# Altium footprint library jst.PcbLib: 39 footprints (part 3 of 3)
Each footprint in its own frame and in the unit in brackets; x right, y up, seen from the top. Pads: shape width x height; smd on the part's side, far side on the other; paste and mask are expansions set on the pad; w line width, h text height; cw(c..) or ccw(c..) is an arc to the next point about the centre after c.
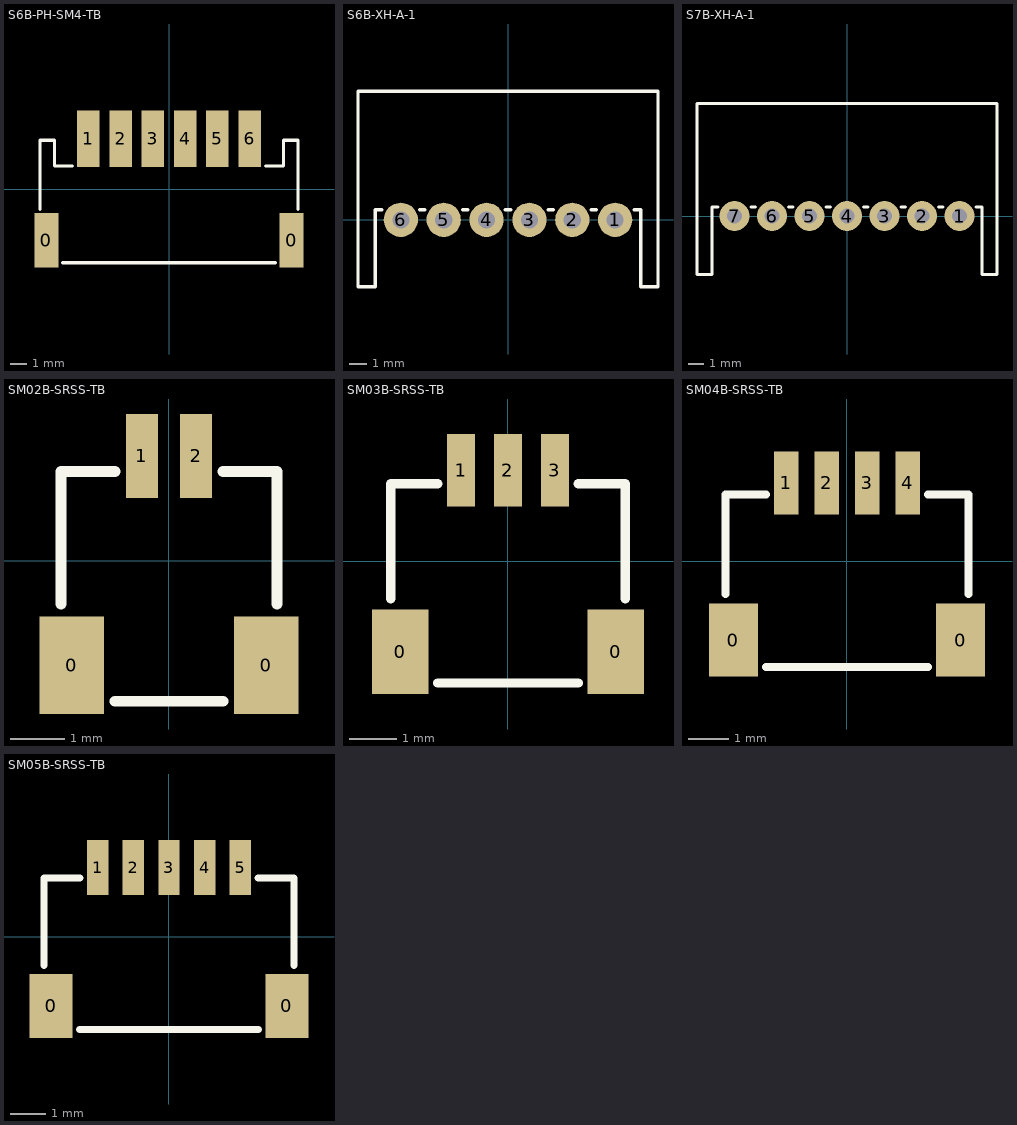
[diagram p2: the footprints below, top view; thin cyan lines are the x and y axes]

## S6B-PH-SM4-TB [mm]
pads (8):
  rect 1.5x3.4 smd: 0(-7.6,-3.15) 0(7.6,-3.15)
  rect 1.4x3.5 smd: 1(-5,3.15) 2(-3,3.15) 3(-1,3.15) 4(1,3.15) 5(3,3.15) 6(5,3.15)
Top Overlay:
  lines w0.2: -8,-1.25 -8,3.05 -7.1,3.05 -7.1,1.45 -6,1.45 ; -6.6,-4.55 6.6,-4.55 ; 6,1.45 7.1,1.45 7.1,3.05 8,3.05 8,-1.25
3D body "S6B-PH-SM4-TB.STEP": height 5.6, standoff 0, extent -7.95,-4.55 7.95,4.05

## S6B-XH-A-1 [mm]
pads (6):
  round 2 hole 1: 1(6.25,0) 2(3.75,0) 3(1.25,0) 4(-1.25,0) 5(-3.75,0) 6(-6.25,0)
Top Overlay:
  lines w0.2: -7.35,0.6 -7.75,0.6 -7.75,-3.9 -8.75,-3.9 -8.75,7.5 8.75,7.5 8.75,-3.9 7.75,-3.9 7.75,0.6 7.35,0.6 ; -5.15,0.6 -4.85,0.6 ; -2.65,0.6 -2.35,0.6 ; -0.15,0.6 0.15,0.6 ; 2.35,0.6 2.65,0.6 ; 4.85,0.6 5.15,0.6
3D body "S6B-XH-A-1.STEP": height 6.15, standoff -3.4, extent -8.7,-3.95 8.7,7.55

## S7B-XH-A-1 [mm]
pads (7):
  round 2 hole 1: 1(7.5,0) 2(5,0) 3(2.5,0) 4(0,0) 5(-2.5,0) 6(-5,0) 7(-7.5,0)
Top Overlay:
  lines w0.2: -8.6,0.6 -9,0.6 -9,-3.9 -10,-3.9 -10,7.5 10,7.5 10,-3.9 9,-3.9 9,0.6 8.6,0.6 ; -6.4,0.6 -6.1,0.6 ; -3.9,0.6 -3.6,0.6 ; -1.4,0.6 -1.1,0.6 ; 1.1,0.6 1.4,0.6 ; 3.6,0.6 3.9,0.6 ; 6.1,0.6 6.4,0.6
3D body "S7B-XH-A-1.STEP": height 6.15, standoff -3.4, extent -10,-3.95 9.9,7.55

## SM02B-SRSS-TB [mm]
pads (4):
  rect 1.2x1.8 smd: 0(-1.8,-1.937) 0(1.8,-1.937)
  rect 0.6x1.55 smd: 1(-0.5,1.938) 2(0.5,1.938)
Top Overlay:
  lines w0.2: -2,-0.8 -2,1.65 -1,1.65 ; -1,-2.6 1,-2.6 ; 1,1.65 2,1.65 2,-0.8
3D body "SM02B-SRSS-TB.STEP": height 2.91, standoff -0.05, extent -2,-2.6 2,2.35

## SM03B-SRSS-TB [mm]
pads (5):
  rect 1.2x1.8 smd: 0(-2.3,-1.937) 0(2.3,-1.937)
  rect 0.6x1.55 smd: 1(-1,1.937) 2(0,1.937) 3(1,1.937)
Top Overlay:
  lines w0.2: -2.5,-0.8 -2.5,1.65 -1.5,1.65 ; -1.5,-2.6 1.5,-2.6 ; 1.5,1.65 2.5,1.65 2.5,-0.8
3D body "SM03B-SRSS-TB.STEP": height 2.91, standoff -0.05, extent -2.5,-2.595 2.5,2.355

## SM04B-SRSS-TB [mm]
pads (6):
  rect 1.2x1.8 smd: 0(-2.8,-1.937) 0(2.8,-1.937)
  rect 0.6x1.55 smd: 1(-1.5,1.937) 2(-0.5,1.937) 3(0.5,1.937) 4(1.5,1.937)
Top Overlay:
  lines w0.2: -3,-0.8 -3,1.65 -2,1.65 ; -2,-2.6 2,-2.6 ; 2,1.65 3,1.65 3,-0.8
3D body "SM04B-SRSS-TB.STEP": height 2.91, standoff -0.05, extent -3,-2.595 3,2.355

## SM05B-SRSS-TB [mm]
pads (7):
  rect 1.2x1.8 smd: 0(-3.3,-1.937) 0(3.3,-1.937)
  rect 0.6x1.55 smd: 1(-2,1.937) 2(-1,1.937) 3(0,1.937) 4(1,1.937) 5(2,1.937)
Top Overlay:
  lines w0.2: -3.5,-0.8 -3.5,1.65 -2.5,1.65 ; -2.5,-2.6 2.5,-2.6 ; 2.5,1.65 3.5,1.65 3.5,-0.8
3D body "SM05B-SRSS-TB.STEP": height 2.91, standoff -0.05, extent -3.5,-2.595 3.5,2.355